# Altium footprint library ESP8266.PcbLib: 10 footprints
Each footprint in its own frame and in the unit in brackets; x right, y up, seen from the top. Pads: shape width x height; smd on the part's side, far side on the other; paste and mask are expansions set on the pad; w line width, h text height; cw(c..) or ccw(c..) is an arc to the next point about the centre after c.
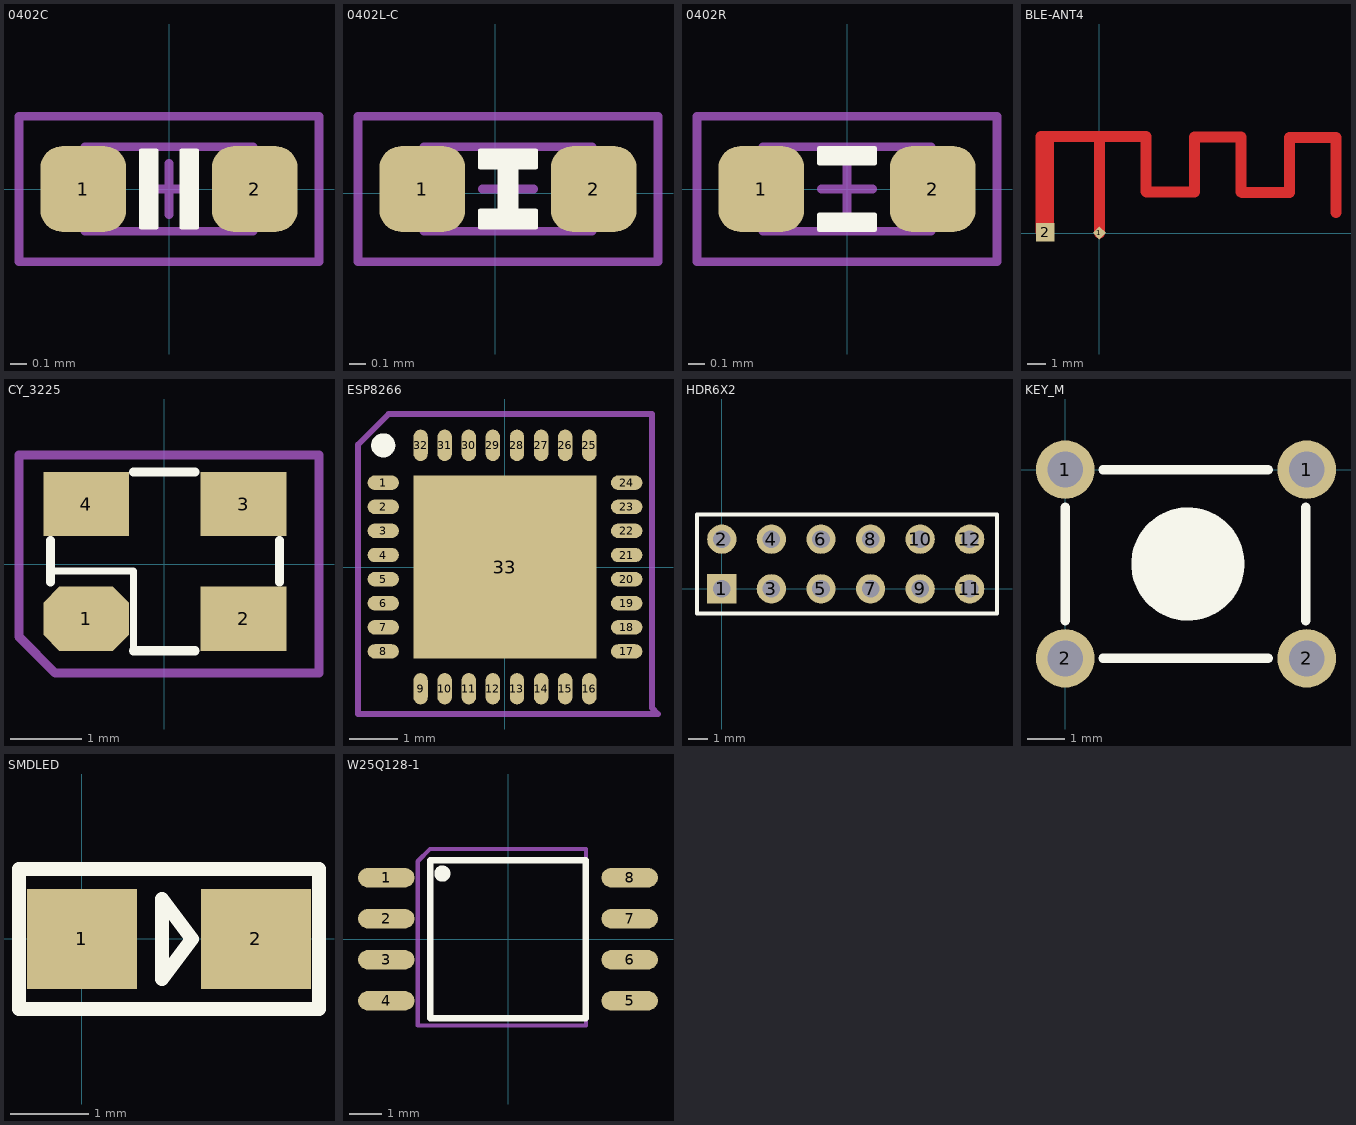
[diagram p0: the footprints below, top view; thin cyan lines are the x and y axes]

## 0402C [mil]
pads (2):
  rrect50% 20x20 smd: 1(-20,0) 2(20,0)
Top Overlay:
  region: 6.5,-9 3,-9 3,9 6.5,9
  region: -6.5,9 -3,9 -3,-9 -6.5,-9
  lines w1: -6.5,-9 -6.5,9 -3,9 -3,-9 -6.5,-9 ; 3,-9 6.5,-9 6.5,9 3,9 3,-9
Mechanical 13:
  lines w2: -6,0 6,0 ; 0,-6 0,6 ; -19.69,-9.84 19.68,-9.84 19.68,9.84 -19.69,9.84 -19.69,-9.84
Mechanical 14:
  lines w2: -35,-17 35,-17 35,17 -35,17 -35,-17
  text ".Designator" at -25,-10 h20
3D body "CAPC1005X05L.step": height 19.68, standoff 0, extent -19.68,-9.84 19.69,9.85

## 0402L-C [mil]
pads (2):
  rrect50% 20x20 smd: 1(-17,1) 2(23,1)
Top Overlay:
  region: -3.5,10 9.5,10 9.5,6 5,6 5,-4 9.5,-4 9.5,-8 -3.5,-8 -3.5,-4 1,-4 1,6 -3.5,6
  lines w1: -3.5,-8 9.5,-8 9.5,-4 5,-4 5,6 9.5,6 9.5,10 -3.5,10 -3.5,6 1,6 1,-4 -3.5,-4 -3.5,-8
Mechanical 13:
  lines w2: -3,1 9,1 ; 3,-5 3,7 ; -16.69,-8.84 22.68,-8.84 22.68,10.84 -16.69,10.84 -16.69,-8.84
Mechanical 14:
  lines w2: -32,-16 38,-16 38,18 -32,18 -32,-16
  text ".Designator" at -22,-9 h20
3D body "INDC1005X05L.step": height 19.68, standoff 0, extent -16.68,-8.84 22.69,10.85

## 0402R [mil]
pads (2):
  rrect50% 20x20 smd: 1(-20,0) 2(20,0)
Top Overlay:
  region: -6.5,9.5 6.5,9.5 6.5,6 -6.5,6
  region: 6.5,-9.5 -6.5,-9.5 -6.5,-6 6.5,-6
  lines w1: -6.5,-9.5 -6.5,-6 6.5,-6 6.5,-9.5 -6.5,-9.5 ; -6.5,6 6.5,6 6.5,9.5 -6.5,9.5 -6.5,6
Mechanical 13:
  lines w2: -6,0 6,0 ; 0,-6 0,6 ; -19.69,-9.84 19.68,-9.84 19.68,9.84 -19.69,9.84 -19.69,-9.84
Mechanical 14:
  lines w2: -35,-17 -35,17 35,17 35,-17 -35,-17
  text ".Designator" at -25,-10 h20
3D body "RESC1005X03L.step": height 13.78, standoff 0, extent -19.68,-9.84 19.69,9.85

## BLE-ANT4 [mm]
pads (2):
  rect 0.5x0.5 smd rot 135: 1(0.005,0.005)
  rect 1x1 smd: 2(-2.923,0.052)
Top Layer:
  lines w0.6: -3.145,0.052 -3.145,5.208 -2.738,5.208 ; -2.738,0.005 -2.738,0.052 -2.738,5.208 ; 0.005,0.005 0.005,5.208 ; 5.103,2.211 2.545,2.211 2.52,2.236 2.52,5.208 0.005,5.208 ; 5.136,2.211 5.136,5.183 7.65,5.183 7.65,2.211 ; 7.701,2.186 10.267,2.186 10.267,5.157 12.781,5.157 12.781,1.119 ; -2.738,5.208 0.005,5.208

## CY_3225 [mm]
pads (4):
  oct 1.2x0.9 smd: 1(-1.093,-0.762)
  rect 1.2x0.9 smd: 2(1.107,-0.762) 3(1.107,0.838) 4(-1.093,0.838)
Top Overlay:
  lines w0.1: -1.593,-0.1 -0.433,-0.1 -0.433,-1.212
  lines w0.127: -1.593,-0.252 -1.593,0.328 ; -0.433,-1.212 0.427,-1.212 ; -0.433,1.288 0.427,1.288 ; 1.607,-0.252 1.607,0.328
Mechanical 14:
  lines w0.127: -2.032,-1.016 -1.524,-1.524 2.159,-1.524 2.159,1.524 -2.032,1.524 -2.032,-1.016
  text ".Designator" at -1.2,-0.191 h0.5

## ESP8266 [mm] "QFN, 32-Leads, Body 5.0x5.0mm (max), Pitch 0.50mm, IPC Medium Density"
height 0.203
pads (33):
  oval 0.65x0.3 smd: 1(-2.525,1.75) 2(-2.525,1.25) 3(-2.525,0.75) 4(-2.525,0.25) 5(-2.525,-0.25) 6(-2.525,-0.75) 7(-2.525,-1.25) 8(-2.525,-1.75) 17(2.525,-1.75) 18(2.525,-1.25) 19(2.525,-0.75) 20(2.525,-0.25) 21(2.525,0.25) 22(2.525,0.75) 23(2.525,1.25) 24(2.525,1.75)
  oval 0.3x0.65 smd: 9(-1.75,-2.525) 10(-1.25,-2.525) 11(-0.75,-2.525) 12(-0.25,-2.525) 13(0.25,-2.525) 14(0.75,-2.525) 15(1.25,-2.525) 16(1.75,-2.525) 25(1.75,2.525) 26(1.25,2.525) 27(0.75,2.525) 28(0.25,2.525) 29(-0.25,2.525) 30(-0.75,2.525) 31(-1.25,2.525) 32(-1.75,2.525)
  rect 3.8x3.8 smd: 33(0,0)
Top Overlay:
  circle w0.25: c-2.525,2.525 r0.125
Mechanical 14:
  lines w0.127: -3.048,-3.048 3.175,-3.048 3.048,-2.921 3.048,3.175 -2.413,3.175 -3.048,2.54 -3.048,2.032 -3.048,-3.048
  text ".Designator" at -1.581,-0.318 h0.5

## HDR6X2 [mm] "Connector; Header; 7x2 Position"
height 1.75
pads (12):
  rect 1.5x1.5 hole 0.9: 1(0,0)
  round 1.5 hole 0.9: 2(0,2.54) 3(2.54,0) 4(2.54,2.54) 5(5.08,0) 6(5.08,2.54) 7(7.62,0) 8(7.62,2.54) 9(10.16,0) 10(10.16,2.54) 11(12.7,0) 12(12.7,2.54)
Top Overlay:
  lines w0.2: -1.27,-1.27 14.097,-1.27 14.097,3.81 -1.27,3.81 -1.27,-1.27

## KEY_M [mil]
pads (4):
  round 62 hole 38: 1(0,0) 1(255.91,0) 2(0,-200) 2(255.91,-200)
Top Overlay:
  circle w60: c130,-100 r30
  lines w10: -0.03,-160 -0.03,-40 ; 39.97,-200 215,-200 ; 39.97,0 215,0 ; 255,-160 255,-40

## SMDLED [mm]
pads (2):
  rect 1.4x1.27 smd: 1(0.001,-0.002) 2(2.211,-0.002)
Top Overlay:
  lines w0.178: 3.012,0.887 3.011,0.887 ; 3.011,0.887 -0.799,0.887 -0.799,-0.002 -0.799,-0.891 3.011,-0.891 3.011,0.887 ; 1.017,-0.51 1.398,-0.002 1.017,0.506 1.017,-0.51

## W25Q128-1 [mm] "SPI_FLASH"
height 1.75
pads (8):
  oval 1.75x0.6 smd: 1(-3.768,1.905) 2(-3.768,0.635) 3(-3.768,-0.635) 4(-3.768,-1.905) 5(3.768,-1.905) 6(3.768,-0.635) 7(3.768,0.635) 8(3.768,1.905)
Top Overlay:
  circle w0.25: c-2.032,2.032 r0.125
  lines w0.2: -2.413,-2.45 -2.413,2.45 2.413,2.45 2.413,-2.45 -2.413,-2.45
Mechanical 14:
  lines w0.127: -2.794,-2.667 -2.794,2.413 -2.413,2.794 2.413,2.794 2.413,-2.667 -2.794,-2.667
  text ".Designator" at -2.216,-0.318 h0.5